# Altium schematic symbol library Securifi_Schlib1.SchLib: 2 symbols
Pins are listed as number, name and electrical type; pins without a type are passive.

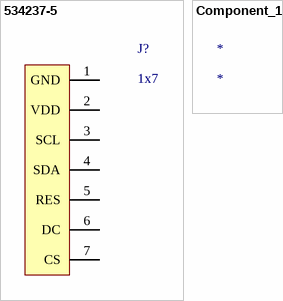
[diagram p0: symbols 534237-5 to Component_1]

## 534237-5
designator J?, comment 1x7
7 pin header voor schermpje; Manufacturer: TE Connectivity; Manufacturer Part Number: 534237-5; Number of Positions: 7; Connector Type: Receptacle,Connector,Socket; Gender: Female; PCB Mount Retention: Without; PCB Mounting Orientation: Vertical; Contact Current Rating: 2A; Insulation Resistance: 5GR; High Temperature Compatible: No; Voltage Rating: 750V; Contact Resistance: 12MR; Boss: No (Without); Stackable: Yes; Pitch: 2.54mm; PCB Thickness: 2.4mm; Row Spacing: 0.1inch; Contact Post Length: 2.92mm; Approvals: CSA; Supplier 1: Digi-Key; RoHS: Yes; Category: Headers and Wire Housings; Stock 1: 4174; Pricing 1: 1=1,62000, 10=1,47000, 100=1,26000, 500=1,05000, 1000=0,90000, 5000=0,79800, 10000=0,78000 (USD); Mount: Through Hole; Contact Plating: Gold,Tin,Lead; Color: Black; Contact Material: Bronze; Housing Color: Black; Housing Material: Polyester; Contact Shape: Square; Min Operating Temperature: -65°C; Max Operating Temperature: 105°C; Package Quantity: 32; Number of Rows: 1; Packaging: Rail/Tube; Termination: Solder; Number of Contacts: 7; Orientation: Straight; Current Rating: 2A; Sealable: No (Without); Length: 17.78mm; Height: 3.56mm; Depth: 3.56mm; Tail Length: 2.92mm; Radiation Hardening: No; Lead Free: Contains Lead; Flammability Rating: UL94 V-0; ELV: Non-Compliant; ComponentLink1URL: https://datasheet.ciiva.com/3118/eng-ds-1307819-ampmodu-0811-3118408.pdf?src-supplier=Avnet; ComponentLink1Description: https://datasheet.ciiva.com/3118/eng-ds-1307819-ampmodu-0811-3118408.pdf?src-supplier=Avnet; ComponentLink2URL: https://datasheet.ciiva.com/743/eng-cd-534237-r5-743694.pdf?src-supplier=Digi-Key; ComponentLink2Description: https://datasheet.ciiva.com/743/eng-cd-534237-r5-743694.pdf?src-supplier=Digi-Key; Supplier Part Number 1: A26419-ND; Catogory: *
footprint DIP7
pins: 1 GND, 2 VDD, 3 SCL, 4 SDA, 5 RES, 6 DC, 7 CS

## Component_1
designator *